# EAGLE library part DF1BZ-8DP-2.5DSA (library Zach)
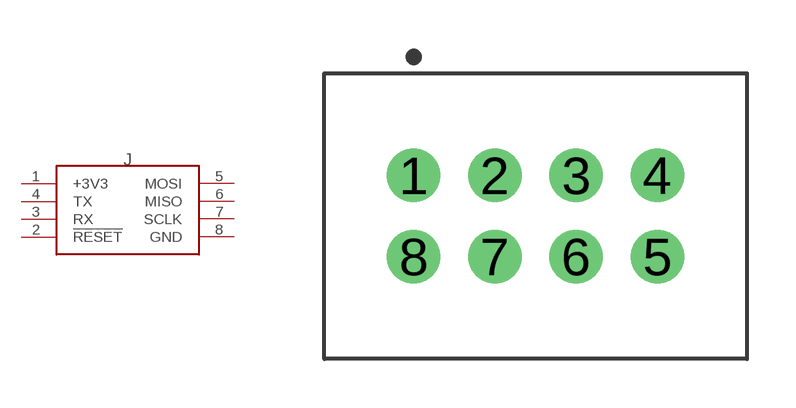
[diagram p1: symbol with the pads of DF1BZ-8DP-2.5DSA; footprint DF1BZ-8DP-2.5DSA]

Designator prefix J

## DF1BZ-8DP-2.5DSA  [DF1BZ-8DP-2.5DSA]
1  +3V3  pwr
2  !RESET  out
3  RX  out
4  TX  in
5  MOSI  out
6  MISO  in
7  SCLK  out
8  GND  pas

## Footprint DF1BZ-8DP-2.5DSA (pad centres in mm)
Double-row, 8-pin Pin Header (Male) Straight, 2.50 mm (0.10 in) row pitch, 2.50 mm (0.10 in) col pitch, 4.80 mm mating length, 12.50 X 8.60 X 7.45 mm body Double-row (2X4), 8-pin Pin Header (Male) Straight package with 2.50 mm (0.10 in) row pitch, 2.50 mm (0.10 in) col pitch, 0.69 mm lead width, 3.62 mm tail length and 4.80 mm mating length with overall size 12.50 X 8.60 X 7.45 mm, pin pattern - clockwise from top left
drill 1.1: 1 -3.75,1.25; 2 -1.25,1.25; 3 1.25,1.25; 4 3.75,1.25; 5 3.75,-1.25; 6 1.25,-1.25; 7 -1.25,-1.25; 8 -3.75,-1.25